# Altium footprint library SL_Qrystals.PcbLib: 2 footprints
Each footprint in its own frame and in the unit in brackets; x right, y up, seen from the top. Pads: shape width x height; smd on the part's side, far side on the other; paste and mask are expansions set on the pad; w line width, h text height; cw(c..) or ccw(c..) is an arc to the next point about the centre after c.
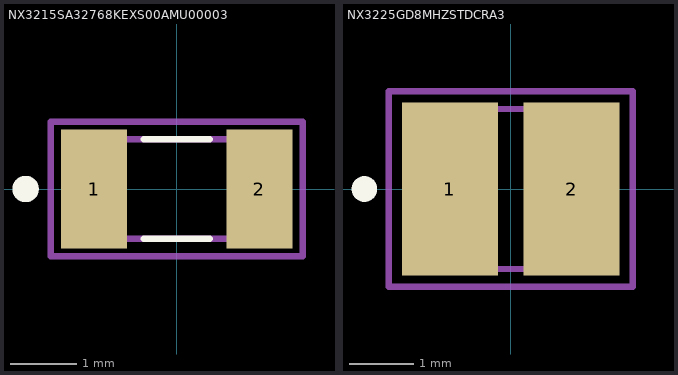
[diagram p0: the footprints below, top view; thin cyan lines are the x and y axes]

## NX3215SA32768KEXS00AMU00003 [mm]
pads (2):
  rect 1x1.8 smd: 1(-1.25,0) 2(1.25,0)
Top Overlay:
  circle w0.2: c-2.286,0 r0.1
  lines w0.1: -0.5,-0.75 0.5,-0.75 ; -0.5,0.75 0.5,0.75
Mechanical 13:
  lines w0.1: -1.6,-0.75 -1.6,0.75 1.6,0.75 1.6,-0.75 -1.6,-0.75
Mechanical 15:
  lines w0.1: -1.905,-1.016 -1.905,1.016 1.905,1.016 1.905,-1.016 -1.905,-1.016
3D body "NX3215SA-32.768K-EXS00A-MU00003.stp": height 0.8, standoff 0, extent -1.6,-0.75 1.6,0.75

## NX3225GD8MHZSTDCRA3 [mm]
pads (2):
  rect 1.5x2.7 smd mask+0.051: 1(-0.95,0) 2(0.95,0)
Top Overlay:
  circle w0.2: c-2.286,0 r0.1
Mechanical 13:
  lines w0.1: -1.6,-1.25 -1.6,1.25 1.6,1.25 1.6,-1.25 -1.6,-1.25
Mechanical 15:
  lines w0.1: -1.905,-1.524 -1.905,1.524 1.905,1.524 1.905,-1.524 -1.905,-1.524
3D body "NX3225GD-8MHZ-STD-CRA-3.stp": height 1, standoff 0, extent -1.6,-1.25 1.6,1.25